# Altium schematic symbol library SCH - CONNECTORS - SAMTEC - IPL1-104-XX-X-S-X.SCHLIB: 1 symbol
Pins are listed as number, name and electrical type; pins without a type are passive.

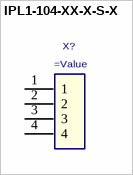
[diagram p0: symbol IPL1-104-XX-X-S-X]

## IPL1-104-XX-X-S-X
designator X?
2.54mm Single Row Terminal Assembly, Right Angle
pins: 1, 2, 3, 4